# EAGLE library part DS1307 (library FaBo-Parts)
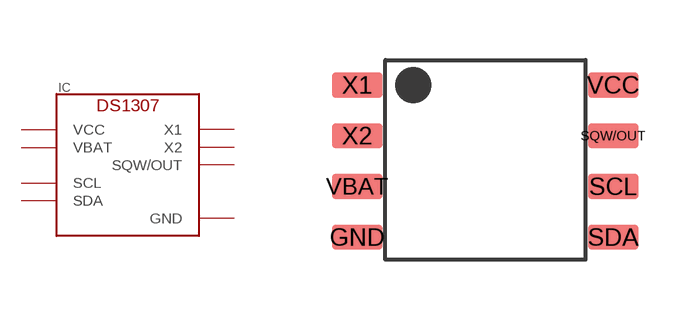
[diagram p8: symbol with the pads of DS1307; footprint DS1307]

Designator prefix IC

## DS1307  [DS1307]
GND  GND
SCL  SCL
SDA  SDA
SQW/OUT  SQW/OUT
VBAT  VBAT
VCC  VCC
X1  X1
X2  X2

## Footprint DS1307 (pad centres in mm)
smd 1.27 x 0.635: GND -3.21,-1.94; SCL 3.19,-0.67; SDA 3.19,-1.94; SQW/OUT 3.19,0.6; VBAT -3.21,-0.67; VCC 3.19,1.87; X1 -3.21,1.87; X2 -3.21,0.6